# Altium schematic symbol library kmilo17pet-NSC_MiscPower.SchLib: 1552 symbols (part 40 of 43)
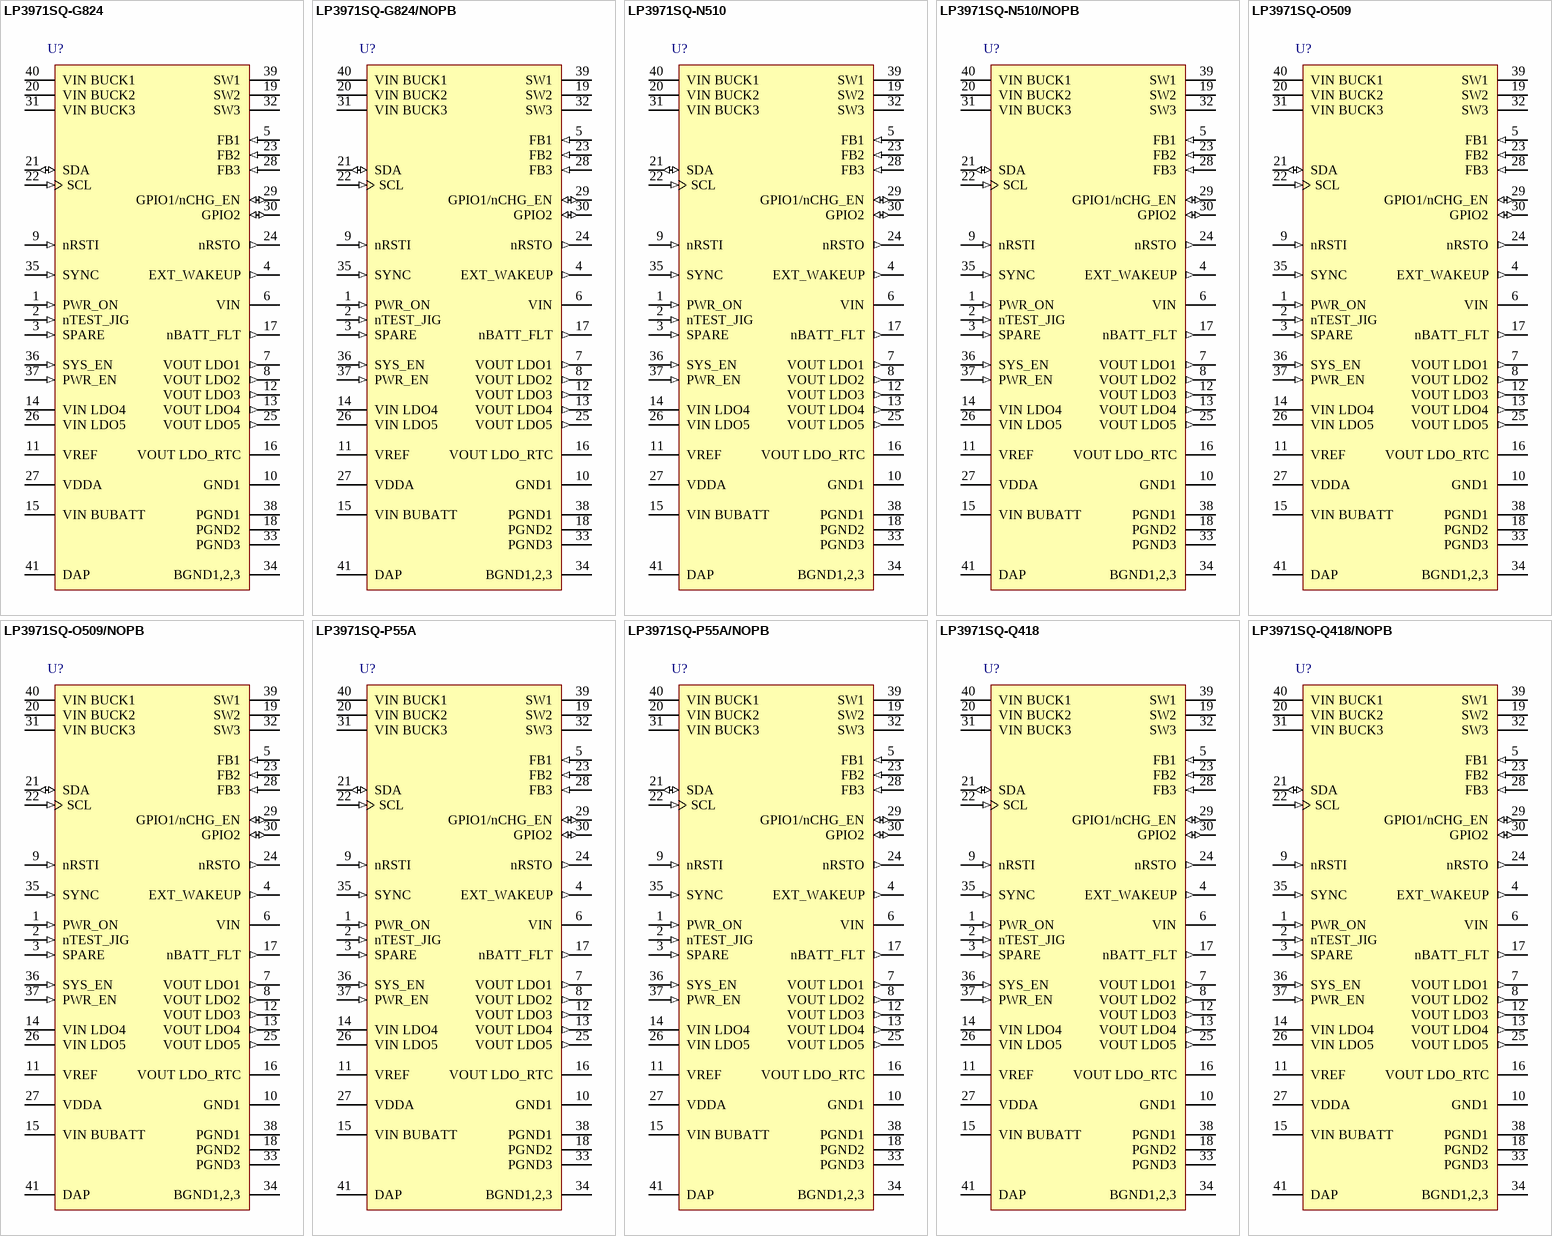
[diagram p96: symbols LP3971SQ-G824 to LP3971SQ-Q418/NOPB]

## LP3971SQ-Q418/NOPB
designator U?
Power Management Unit for Advanced Application Processors, 40-pin LLP, Pb-Free; PartNumber: LP3971SQ-Q418/NOPB; Manufacturer: National Semiconductor; PackageTopMarking: NS*UZXYTT*71-Q418; PowerWise: N; CompType: MiscPower; High-Reliability: Y; DatasheetVersion: Oct-2008; PackageVersion: revB, Jul-2004; PackageReference: SQF40A; PackageDescription: LLP, Quad, 5 x 5 x 0.8mm Body, 40 Lead, 0.4mm Pitch, 3.6 x 3.6mm Exposed Pad; RoHS: Y; PinCount: 40; ComponentLink1Description: Manufacturer URL; ComponentLink1URL: http://www.national.com/; ComponentLink2Description: LP3971 Datasheet; ComponentLink2URL: http://www.national.com/ds/LP/LP3971.pdf; ComponentLink3Description: LP3971 Web Page; ComponentLink3URL: http://www.national.com/pf/LP/LP3971.html; ComponentLink4Description: SQF40A Package Page; ComponentLink4URL: http://www.national.com/packaging/folders/sqf40a.html
footprint SQF40A (QFN, 41-Leads, Body 5x5mm, Pitch 0.4mm, Thermal Pad 3.6x3.6mm, NSC Recommended)
pins: 1 PWR_ON (in), 2 nTEST_JIG (in), 3 SPARE (in), 4 EXT_WAKEUP (out), 5 FB1 (in), 6 VIN (power), 7 VOUT LDO1 (out), 8 VOUT LDO2 (out), 9 nRSTI (in), 10 GND1 (power), 11 VREF, 12 VOUT LDO3 (out), 13 VOUT LDO4 (out), 14 VIN LDO4 (power), 15 VIN BUBATT (power), 16 VOUT LDO_RTC (power), 17 nBATT_FLT (out), 18 PGND2 (power), 19 SW2 (power), 20 VIN BUCK2 (power), 21 SDA (io), 22 SCL (in), 23 FB2 (in), 24 nRSTO (out), 25 VOUT LDO5 (out), 26 VIN LDO5 (power), 27 VDDA (power), 28 FB3 (in), 29 GPIO1/nCHG_EN (io), 30 GPIO2 (io), 31 VIN BUCK3 (power), 32 SW3 (power), 33 PGND3 (power), 34 BGND1,2,3 (power), 35 SYNC (in), 36 SYS_EN (in), 37 PWR_EN (in), 38 PGND1 (power), 39 SW1 (power), 40 VIN BUCK1 (power), 41 DAP (power)

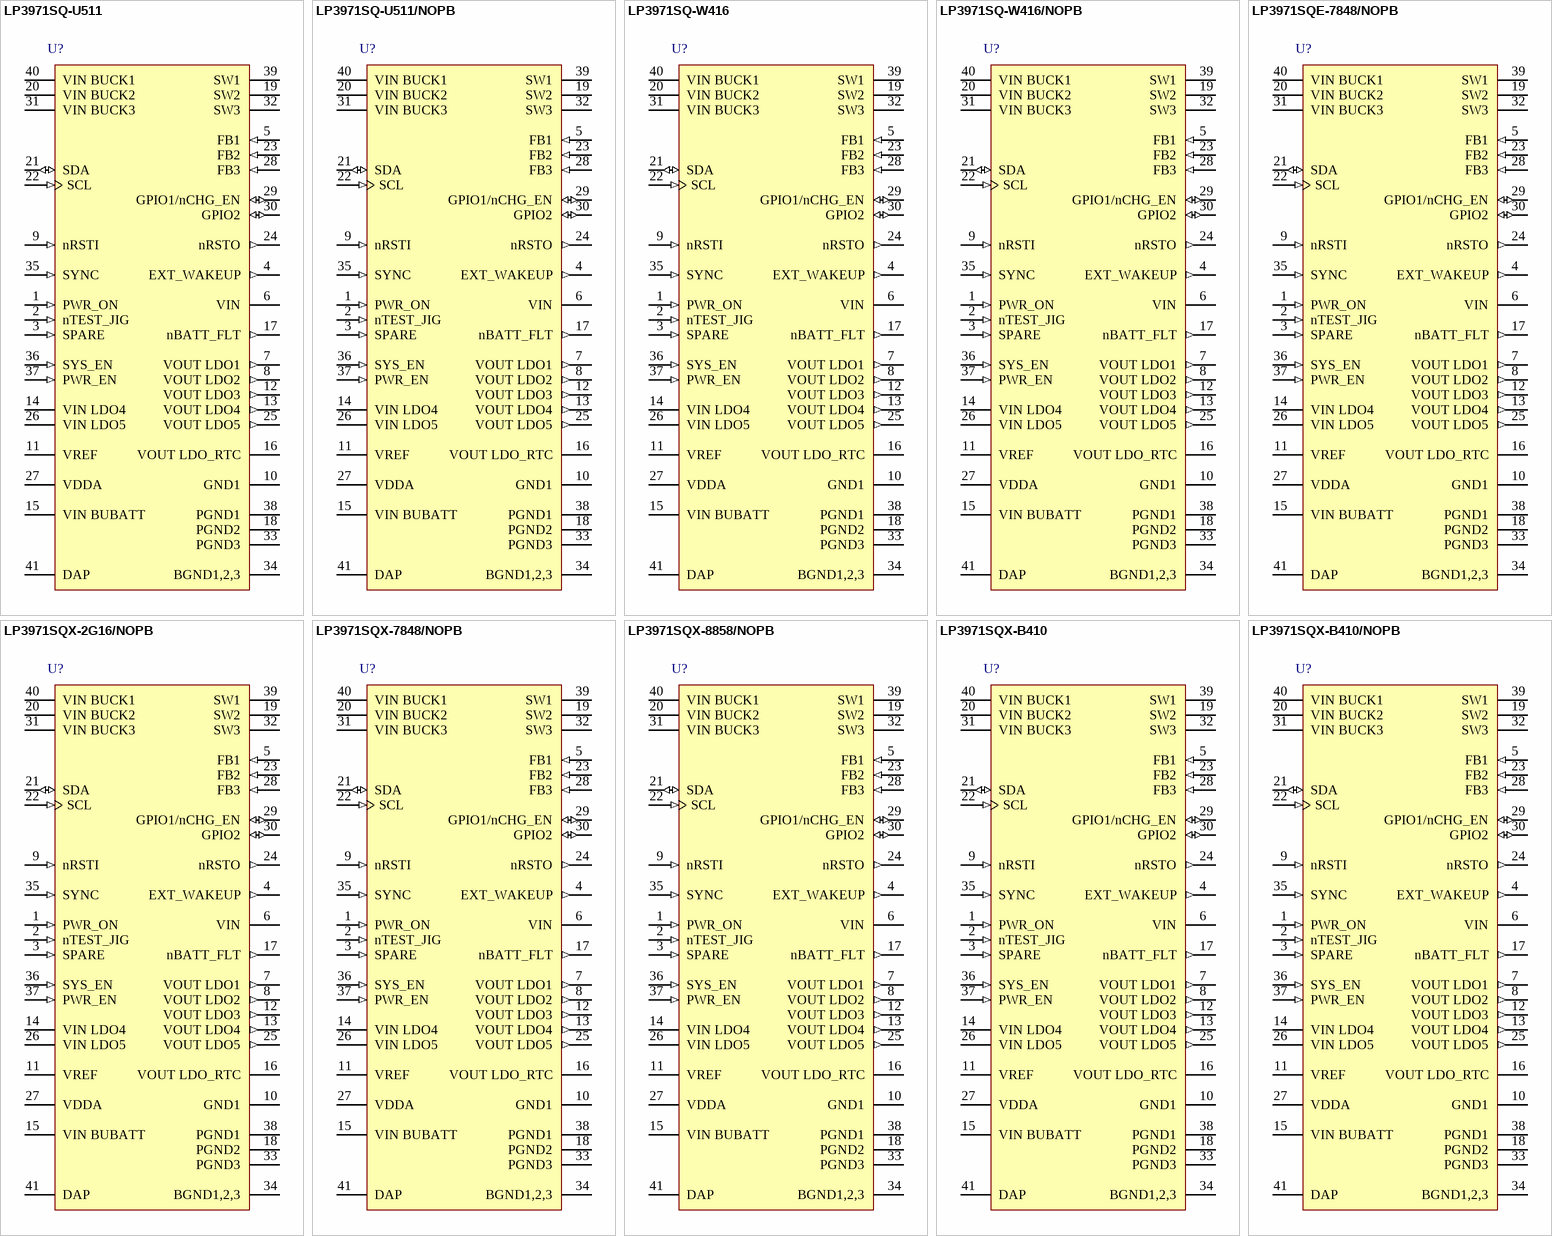
[diagram p50: symbols LP3971SQ-U511 to LP3971SQX-B410/NOPB]

## LP3971SQ-U511
designator U?
Power Management Unit for Advanced Application Processor, 40-pin LLP; PartNumber: LP3971SQ-U511; Manufacturer: National Semiconductor; PackageTopMarking: NS*UZXYTT*71-U511; PowerWise: N; CompType: MiscPower; High-Reliability: Y; DatasheetVersion: Oct-2008; PackageVersion: revB, Jul-2004; PackageReference: SQF40A; PackageDescription: LLP, Quad, 5 x 5 x 0.8mm Body, 40 Lead, 0.4mm Pitch, 3.6 x 3.6mm Exposed Pad; RoHS: Y; PinCount: 40; ComponentLink1Description: Manufacturer URL; ComponentLink1URL: http://www.national.com/; ComponentLink2Description: LP3971 Datasheet; ComponentLink2URL: http://www.national.com/ds/LP/LP3971.pdf; ComponentLink3Description: LP3971 Web Page; ComponentLink3URL: http://www.national.com/pf/LP/LP3971.html; ComponentLink4Description: SQF40A Package Page; ComponentLink4URL: http://www.national.com/packaging/folders/sqf40a.html
footprint SQF40A (QFN, 41-Leads, Body 5x5mm, Pitch 0.4mm, Thermal Pad 3.6x3.6mm, NSC Recommended)
pins: 1 PWR_ON (in), 2 nTEST_JIG (in), 3 SPARE (in), 4 EXT_WAKEUP (out), 5 FB1 (in), 6 VIN (power), 7 VOUT LDO1 (out), 8 VOUT LDO2 (out), 9 nRSTI (in), 10 GND1 (power), 11 VREF, 12 VOUT LDO3 (out), 13 VOUT LDO4 (out), 14 VIN LDO4 (power), 15 VIN BUBATT (power), 16 VOUT LDO_RTC (power), 17 nBATT_FLT (out), 18 PGND2 (power), 19 SW2 (power), 20 VIN BUCK2 (power), 21 SDA (io), 22 SCL (in), 23 FB2 (in), 24 nRSTO (out), 25 VOUT LDO5 (out), 26 VIN LDO5 (power), 27 VDDA (power), 28 FB3 (in), 29 GPIO1/nCHG_EN (io), 30 GPIO2 (io), 31 VIN BUCK3 (power), 32 SW3 (power), 33 PGND3 (power), 34 BGND1,2,3 (power), 35 SYNC (in), 36 SYS_EN (in), 37 PWR_EN (in), 38 PGND1 (power), 39 SW1 (power), 40 VIN BUCK1 (power), 41 DAP (power)

## LP3971SQ-U511/NOPB
designator U?
Power Management Unit for Advanced Application Processors, 40-pin LLP, Pb-Free; PartNumber: LP3971SQ-U511/NOPB; Manufacturer: National Semiconductor; PackageTopMarking: NS*UZXYTT*71-U511; PowerWise: N; CompType: MiscPower; High-Reliability: Y; DatasheetVersion: Oct-2008; PackageVersion: revB, Jul-2004; PackageReference: SQF40A; PackageDescription: LLP, Quad, 5 x 5 x 0.8mm Body, 40 Lead, 0.4mm Pitch, 3.6 x 3.6mm Exposed Pad; RoHS: Y; PinCount: 40; ComponentLink1Description: Manufacturer URL; ComponentLink1URL: http://www.national.com/; ComponentLink2Description: LP3971 Datasheet; ComponentLink2URL: http://www.national.com/ds/LP/LP3971.pdf; ComponentLink3Description: LP3971 Web Page; ComponentLink3URL: http://www.national.com/pf/LP/LP3971.html; ComponentLink4Description: SQF40A Package Page; ComponentLink4URL: http://www.national.com/packaging/folders/sqf40a.html
footprint SQF40A (QFN, 41-Leads, Body 5x5mm, Pitch 0.4mm, Thermal Pad 3.6x3.6mm, NSC Recommended)
pins: 1 PWR_ON (in), 2 nTEST_JIG (in), 3 SPARE (in), 4 EXT_WAKEUP (out), 5 FB1 (in), 6 VIN (power), 7 VOUT LDO1 (out), 8 VOUT LDO2 (out), 9 nRSTI (in), 10 GND1 (power), 11 VREF, 12 VOUT LDO3 (out), 13 VOUT LDO4 (out), 14 VIN LDO4 (power), 15 VIN BUBATT (power), 16 VOUT LDO_RTC (power), 17 nBATT_FLT (out), 18 PGND2 (power), 19 SW2 (power), 20 VIN BUCK2 (power), 21 SDA (io), 22 SCL (in), 23 FB2 (in), 24 nRSTO (out), 25 VOUT LDO5 (out), 26 VIN LDO5 (power), 27 VDDA (power), 28 FB3 (in), 29 GPIO1/nCHG_EN (io), 30 GPIO2 (io), 31 VIN BUCK3 (power), 32 SW3 (power), 33 PGND3 (power), 34 BGND1,2,3 (power), 35 SYNC (in), 36 SYS_EN (in), 37 PWR_EN (in), 38 PGND1 (power), 39 SW1 (power), 40 VIN BUCK1 (power), 41 DAP (power)

## LP3971SQ-W416
designator U?
Power Management Unit for Advanced Application Processor, 40-pin LLP; PartNumber: LP3971SQ-W416; Manufacturer: National Semiconductor; PackageTopMarking: NS*UZXYTT*71W416; PowerWise: N; CompType: MiscPower; High-Reliability: Y; DatasheetVersion: Oct-2008; PackageVersion: revB, Jul-2004; PackageReference: SQF40A; PackageDescription: LLP, Quad, 5 x 5 x 0.8mm Body, 40 Lead, 0.4mm Pitch, 3.6 x 3.6mm Exposed Pad; RoHS: Y; PinCount: 40; ComponentLink1Description: Manufacturer URL; ComponentLink1URL: http://www.national.com/; ComponentLink2Description: LP3971 Datasheet; ComponentLink2URL: http://www.national.com/ds/LP/LP3971.pdf; ComponentLink3Description: LP3971 Web Page; ComponentLink3URL: http://www.national.com/pf/LP/LP3971.html; ComponentLink4Description: SQF40A Package Page; ComponentLink4URL: http://www.national.com/packaging/folders/sqf40a.html
footprint SQF40A (QFN, 41-Leads, Body 5x5mm, Pitch 0.4mm, Thermal Pad 3.6x3.6mm, NSC Recommended)
pins: 1 PWR_ON (in), 2 nTEST_JIG (in), 3 SPARE (in), 4 EXT_WAKEUP (out), 5 FB1 (in), 6 VIN (power), 7 VOUT LDO1 (out), 8 VOUT LDO2 (out), 9 nRSTI (in), 10 GND1 (power), 11 VREF, 12 VOUT LDO3 (out), 13 VOUT LDO4 (out), 14 VIN LDO4 (power), 15 VIN BUBATT (power), 16 VOUT LDO_RTC (power), 17 nBATT_FLT (out), 18 PGND2 (power), 19 SW2 (power), 20 VIN BUCK2 (power), 21 SDA (io), 22 SCL (in), 23 FB2 (in), 24 nRSTO (out), 25 VOUT LDO5 (out), 26 VIN LDO5 (power), 27 VDDA (power), 28 FB3 (in), 29 GPIO1/nCHG_EN (io), 30 GPIO2 (io), 31 VIN BUCK3 (power), 32 SW3 (power), 33 PGND3 (power), 34 BGND1,2,3 (power), 35 SYNC (in), 36 SYS_EN (in), 37 PWR_EN (in), 38 PGND1 (power), 39 SW1 (power), 40 VIN BUCK1 (power), 41 DAP (power)

## LP3971SQ-W416/NOPB
designator U?
Power Management Unit for Advanced Application Processors, 40-pin LLP, Pb-Free; PartNumber: LP3971SQ-W416/NOPB; Manufacturer: National Semiconductor; PackageTopMarking: NS*UZXYTT*71W416; PowerWise: N; CompType: MiscPower; High-Reliability: Y; DatasheetVersion: Oct-2008; PackageVersion: revB, Jul-2004; PackageReference: SQF40A; PackageDescription: LLP, Quad, 5 x 5 x 0.8mm Body, 40 Lead, 0.4mm Pitch, 3.6 x 3.6mm Exposed Pad; RoHS: Y; PinCount: 40; ComponentLink1Description: Manufacturer URL; ComponentLink1URL: http://www.national.com/; ComponentLink2Description: LP3971 Datasheet; ComponentLink2URL: http://www.national.com/ds/LP/LP3971.pdf; ComponentLink3Description: LP3971 Web Page; ComponentLink3URL: http://www.national.com/pf/LP/LP3971.html; ComponentLink4Description: SQF40A Package Page; ComponentLink4URL: http://www.national.com/packaging/folders/sqf40a.html
footprint SQF40A (QFN, 41-Leads, Body 5x5mm, Pitch 0.4mm, Thermal Pad 3.6x3.6mm, NSC Recommended)
pins: 1 PWR_ON (in), 2 nTEST_JIG (in), 3 SPARE (in), 4 EXT_WAKEUP (out), 5 FB1 (in), 6 VIN (power), 7 VOUT LDO1 (out), 8 VOUT LDO2 (out), 9 nRSTI (in), 10 GND1 (power), 11 VREF, 12 VOUT LDO3 (out), 13 VOUT LDO4 (out), 14 VIN LDO4 (power), 15 VIN BUBATT (power), 16 VOUT LDO_RTC (power), 17 nBATT_FLT (out), 18 PGND2 (power), 19 SW2 (power), 20 VIN BUCK2 (power), 21 SDA (io), 22 SCL (in), 23 FB2 (in), 24 nRSTO (out), 25 VOUT LDO5 (out), 26 VIN LDO5 (power), 27 VDDA (power), 28 FB3 (in), 29 GPIO1/nCHG_EN (io), 30 GPIO2 (io), 31 VIN BUCK3 (power), 32 SW3 (power), 33 PGND3 (power), 34 BGND1,2,3 (power), 35 SYNC (in), 36 SYS_EN (in), 37 PWR_EN (in), 38 PGND1 (power), 39 SW1 (power), 40 VIN BUCK1 (power), 41 DAP (power)

## LP3971SQE-7848/NOPB
designator U?
Power Management Unit for Advanced Application Processors, 40-pin LLP, Pb-Free; PartNumber: LP3971SQE-7848/NOPB; Manufacturer: National Semiconductor; PackageTopMarking: NS*UZXYTT*71-7848; PowerWise: N; CompType: MiscPower; High-Reliability: Y; DatasheetVersion: Oct-2008; PackageVersion: revB, Jul-2004; PackageReference: SQF40A; PackageDescription: LLP, Quad, 5 x 5 x 0.8mm Body, 40 Lead, 0.4mm Pitch, 3.6 x 3.6mm Exposed Pad; RoHS: Y; PinCount: 40; ComponentLink1Description: Manufacturer URL; ComponentLink1URL: http://www.national.com/; ComponentLink2Description: LP3971 Datasheet; ComponentLink2URL: http://www.national.com/ds/LP/LP3971.pdf; ComponentLink3Description: LP3971 Web Page; ComponentLink3URL: http://www.national.com/pf/LP/LP3971.html; ComponentLink4Description: SQF40A Package Page; ComponentLink4URL: http://www.national.com/packaging/folders/sqf40a.html
footprint SQF40A (QFN, 41-Leads, Body 5x5mm, Pitch 0.4mm, Thermal Pad 3.6x3.6mm, NSC Recommended)
pins: 1 PWR_ON (in), 2 nTEST_JIG (in), 3 SPARE (in), 4 EXT_WAKEUP (out), 5 FB1 (in), 6 VIN (power), 7 VOUT LDO1 (out), 8 VOUT LDO2 (out), 9 nRSTI (in), 10 GND1 (power), 11 VREF, 12 VOUT LDO3 (out), 13 VOUT LDO4 (out), 14 VIN LDO4 (power), 15 VIN BUBATT (power), 16 VOUT LDO_RTC (power), 17 nBATT_FLT (out), 18 PGND2 (power), 19 SW2 (power), 20 VIN BUCK2 (power), 21 SDA (io), 22 SCL (in), 23 FB2 (in), 24 nRSTO (out), 25 VOUT LDO5 (out), 26 VIN LDO5 (power), 27 VDDA (power), 28 FB3 (in), 29 GPIO1/nCHG_EN (io), 30 GPIO2 (io), 31 VIN BUCK3 (power), 32 SW3 (power), 33 PGND3 (power), 34 BGND1,2,3 (power), 35 SYNC (in), 36 SYS_EN (in), 37 PWR_EN (in), 38 PGND1 (power), 39 SW1 (power), 40 VIN BUCK1 (power), 41 DAP (power)

## LP3971SQX-2G16/NOPB
designator U?
Power Management Unit for Advanced Application Processors, 40-pin LLP, Pb-Free; PartNumber: LP3971SQX-2G16/NOPB; Manufacturer: National Semiconductor; PackageTopMarking: NS*UZXYTT*71-2G16; PowerWise: N; CompType: MiscPower; High-Reliability: Y; DatasheetVersion: Oct-2008; PackageVersion: revB, Jul-2004; PackageReference: SQF40A; PackageDescription: LLP, Quad, 5 x 5 x 0.8mm Body, 40 Lead, 0.4mm Pitch, 3.6 x 3.6mm Exposed Pad; RoHS: Y; PinCount: 40; ComponentLink1Description: Manufacturer URL; ComponentLink1URL: http://www.national.com/; ComponentLink2Description: LP3971 Datasheet; ComponentLink2URL: http://www.national.com/ds/LP/LP3971.pdf; ComponentLink3Description: LP3971 Web Page; ComponentLink3URL: http://www.national.com/pf/LP/LP3971.html; ComponentLink4Description: SQF40A Package Page; ComponentLink4URL: http://www.national.com/packaging/folders/sqf40a.html
footprint SQF40A (QFN, 41-Leads, Body 5x5mm, Pitch 0.4mm, Thermal Pad 3.6x3.6mm, NSC Recommended)
pins: 1 PWR_ON (in), 2 nTEST_JIG (in), 3 SPARE (in), 4 EXT_WAKEUP (out), 5 FB1 (in), 6 VIN (power), 7 VOUT LDO1 (out), 8 VOUT LDO2 (out), 9 nRSTI (in), 10 GND1 (power), 11 VREF, 12 VOUT LDO3 (out), 13 VOUT LDO4 (out), 14 VIN LDO4 (power), 15 VIN BUBATT (power), 16 VOUT LDO_RTC (power), 17 nBATT_FLT (out), 18 PGND2 (power), 19 SW2 (power), 20 VIN BUCK2 (power), 21 SDA (io), 22 SCL (in), 23 FB2 (in), 24 nRSTO (out), 25 VOUT LDO5 (out), 26 VIN LDO5 (power), 27 VDDA (power), 28 FB3 (in), 29 GPIO1/nCHG_EN (io), 30 GPIO2 (io), 31 VIN BUCK3 (power), 32 SW3 (power), 33 PGND3 (power), 34 BGND1,2,3 (power), 35 SYNC (in), 36 SYS_EN (in), 37 PWR_EN (in), 38 PGND1 (power), 39 SW1 (power), 40 VIN BUCK1 (power), 41 DAP (power)

## LP3971SQX-7848/NOPB
designator U?
Power Management Unit for Advanced Application Processors, 40-pin LLP, Pb-Free; PartNumber: LP3971SQX-7848/NOPB; Manufacturer: National Semiconductor; PackageTopMarking: NS*UZXYTT*71-7848; PowerWise: N; CompType: MiscPower; High-Reliability: Y; DatasheetVersion: Oct-2008; PackageVersion: revB, Jul-2004; PackageReference: SQF40A; PackageDescription: LLP, Quad, 5 x 5 x 0.8mm Body, 40 Lead, 0.4mm Pitch, 3.6 x 3.6mm Exposed Pad; RoHS: Y; PinCount: 40; ComponentLink1Description: Manufacturer URL; ComponentLink1URL: http://www.national.com/; ComponentLink2Description: LP3971 Datasheet; ComponentLink2URL: http://www.national.com/ds/LP/LP3971.pdf; ComponentLink3Description: LP3971 Web Page; ComponentLink3URL: http://www.national.com/pf/LP/LP3971.html; ComponentLink4Description: SQF40A Package Page; ComponentLink4URL: http://www.national.com/packaging/folders/sqf40a.html
footprint SQF40A (QFN, 41-Leads, Body 5x5mm, Pitch 0.4mm, Thermal Pad 3.6x3.6mm, NSC Recommended)
pins: 1 PWR_ON (in), 2 nTEST_JIG (in), 3 SPARE (in), 4 EXT_WAKEUP (out), 5 FB1 (in), 6 VIN (power), 7 VOUT LDO1 (out), 8 VOUT LDO2 (out), 9 nRSTI (in), 10 GND1 (power), 11 VREF, 12 VOUT LDO3 (out), 13 VOUT LDO4 (out), 14 VIN LDO4 (power), 15 VIN BUBATT (power), 16 VOUT LDO_RTC (power), 17 nBATT_FLT (out), 18 PGND2 (power), 19 SW2 (power), 20 VIN BUCK2 (power), 21 SDA (io), 22 SCL (in), 23 FB2 (in), 24 nRSTO (out), 25 VOUT LDO5 (out), 26 VIN LDO5 (power), 27 VDDA (power), 28 FB3 (in), 29 GPIO1/nCHG_EN (io), 30 GPIO2 (io), 31 VIN BUCK3 (power), 32 SW3 (power), 33 PGND3 (power), 34 BGND1,2,3 (power), 35 SYNC (in), 36 SYS_EN (in), 37 PWR_EN (in), 38 PGND1 (power), 39 SW1 (power), 40 VIN BUCK1 (power), 41 DAP (power)

## LP3971SQX-8858/NOPB
designator U?
Power Management Unit for Advanced Application Processors, 40-pin LLP, Pb-Free; PartNumber: LP3971SQX-8858/NOPB; Manufacturer: National Semiconductor; PackageTopMarking: NS*UZXYTT*71-8858; PowerWise: N; CompType: MiscPower; High-Reliability: Y; DatasheetVersion: Oct-2008; PackageVersion: revB, Jul-2004; PackageReference: SQF40A; PackageDescription: LLP, Quad, 5 x 5 x 0.8mm Body, 40 Lead, 0.4mm Pitch, 3.6 x 3.6mm Exposed Pad; RoHS: Y; PinCount: 40; ComponentLink1Description: Manufacturer URL; ComponentLink1URL: http://www.national.com/; ComponentLink2Description: LP3971 Datasheet; ComponentLink2URL: http://www.national.com/ds/LP/LP3971.pdf; ComponentLink3Description: LP3971 Web Page; ComponentLink3URL: http://www.national.com/pf/LP/LP3971.html; ComponentLink4Description: SQF40A Package Page; ComponentLink4URL: http://www.national.com/packaging/folders/sqf40a.html
footprint SQF40A (QFN, 41-Leads, Body 5x5mm, Pitch 0.4mm, Thermal Pad 3.6x3.6mm, NSC Recommended)
pins: 1 PWR_ON (in), 2 nTEST_JIG (in), 3 SPARE (in), 4 EXT_WAKEUP (out), 5 FB1 (in), 6 VIN (power), 7 VOUT LDO1 (out), 8 VOUT LDO2 (out), 9 nRSTI (in), 10 GND1 (power), 11 VREF, 12 VOUT LDO3 (out), 13 VOUT LDO4 (out), 14 VIN LDO4 (power), 15 VIN BUBATT (power), 16 VOUT LDO_RTC (power), 17 nBATT_FLT (out), 18 PGND2 (power), 19 SW2 (power), 20 VIN BUCK2 (power), 21 SDA (io), 22 SCL (in), 23 FB2 (in), 24 nRSTO (out), 25 VOUT LDO5 (out), 26 VIN LDO5 (power), 27 VDDA (power), 28 FB3 (in), 29 GPIO1/nCHG_EN (io), 30 GPIO2 (io), 31 VIN BUCK3 (power), 32 SW3 (power), 33 PGND3 (power), 34 BGND1,2,3 (power), 35 SYNC (in), 36 SYS_EN (in), 37 PWR_EN (in), 38 PGND1 (power), 39 SW1 (power), 40 VIN BUCK1 (power), 41 DAP (power)

## LP3971SQX-B410
designator U?
Power Management Unit for Advanced Application Processors, 40-pin LLP; PartNumber: LP3971SQX-B410; Manufacturer: National Semiconductor; PackageTopMarking: NS*UZXYTT*71-B410; PowerWise: Y; CompType: MiscPower; DatasheetVersion: Oct-2008; PackageVersion: revB, Jul-2004; PackageReference: SQF40A; PackageDescription: LLP, Quad, 5 x 5 x 0.8mm Body, 40 Lead, 0.4mm Pitch, 3.6 x 3.6mm Exposed Pad; RoHS: N; PinCount: 40; High-Reliability: Y; ComponentLink1Description: Manufacturer URL; ComponentLink1URL: http://www.national.com/; ComponentLink2Description: LP3971 Datasheet; ComponentLink2URL: http://www.national.com/ds/LP/LP3971.pdf; ComponentLink3Description: LP3971 Web Page; ComponentLink3URL: http://www.national.com/pf/LP/LP3971.html; ComponentLink4Description: SQF40A Package Page; ComponentLink4URL: http://www.national.com/packaging/folders/sqf40a.html
footprint SQF40A (QFN, 41-Leads, Body 5x5mm, Pitch 0.4mm, Thermal Pad 3.6x3.6mm, NSC Recommended)
pins: 1 PWR_ON (in), 2 nTEST_JIG (in), 3 SPARE (in), 4 EXT_WAKEUP (out), 5 FB1 (in), 6 VIN (power), 7 VOUT LDO1 (out), 8 VOUT LDO2 (out), 9 nRSTI (in), 10 GND1 (power), 11 VREF, 12 VOUT LDO3 (out), 13 VOUT LDO4 (out), 14 VIN LDO4 (power), 15 VIN BUBATT (power), 16 VOUT LDO_RTC (power), 17 nBATT_FLT (out), 18 PGND2 (power), 19 SW2 (power), 20 VIN BUCK2 (power), 21 SDA (io), 22 SCL (in), 23 FB2 (in), 24 nRSTO (out), 25 VOUT LDO5 (out), 26 VIN LDO5 (power), 27 VDDA (power), 28 FB3 (in), 29 GPIO1/nCHG_EN (io), 30 GPIO2 (io), 31 VIN BUCK3 (power), 32 SW3 (power), 33 PGND3 (power), 34 BGND1,2,3 (power), 35 SYNC (in), 36 SYS_EN (in), 37 PWR_EN (in), 38 PGND1 (power), 39 SW1 (power), 40 VIN BUCK1 (power), 41 DAP (power)

## LP3971SQX-B410/NOPB
designator U?
Power Management Unit for Advanced Application Processors, 40-pin LLP, Pb-Free; PartNumber: LP3971SQX-B410/NOPB; Manufacturer: National Semiconductor; PackageTopMarking: NS*UZXYTT*71-B410; PowerWise: Y; CompType: MiscPower; DatasheetVersion: Oct-2008; PackageVersion: revB, Jul-2004; PackageReference: SQF40A; PackageDescription: LLP, Quad, 5 x 5 x 0.8mm Body, 40 Lead, 0.4mm Pitch, 3.6 x 3.6mm Exposed Pad; RoHS: Y; PinCount: 40; High-Reliability: Y; ComponentLink1Description: Manufacturer URL; ComponentLink1URL: http://www.national.com/; ComponentLink2Description: LP3971 Datasheet; ComponentLink2URL: http://www.national.com/ds/LP/LP3971.pdf; ComponentLink3Description: LP3971 Web Page; ComponentLink3URL: http://www.national.com/pf/LP/LP3971.html; ComponentLink4Description: SQF40A Package Page; ComponentLink4URL: http://www.national.com/packaging/folders/sqf40a.html
footprint SQF40A (QFN, 41-Leads, Body 5x5mm, Pitch 0.4mm, Thermal Pad 3.6x3.6mm, NSC Recommended)
pins: 1 PWR_ON (in), 2 nTEST_JIG (in), 3 SPARE (in), 4 EXT_WAKEUP (out), 5 FB1 (in), 6 VIN (power), 7 VOUT LDO1 (out), 8 VOUT LDO2 (out), 9 nRSTI (in), 10 GND1 (power), 11 VREF, 12 VOUT LDO3 (out), 13 VOUT LDO4 (out), 14 VIN LDO4 (power), 15 VIN BUBATT (power), 16 VOUT LDO_RTC (power), 17 nBATT_FLT (out), 18 PGND2 (power), 19 SW2 (power), 20 VIN BUCK2 (power), 21 SDA (io), 22 SCL (in), 23 FB2 (in), 24 nRSTO (out), 25 VOUT LDO5 (out), 26 VIN LDO5 (power), 27 VDDA (power), 28 FB3 (in), 29 GPIO1/nCHG_EN (io), 30 GPIO2 (io), 31 VIN BUCK3 (power), 32 SW3 (power), 33 PGND3 (power), 34 BGND1,2,3 (power), 35 SYNC (in), 36 SYS_EN (in), 37 PWR_EN (in), 38 PGND1 (power), 39 SW1 (power), 40 VIN BUCK1 (power), 41 DAP (power)

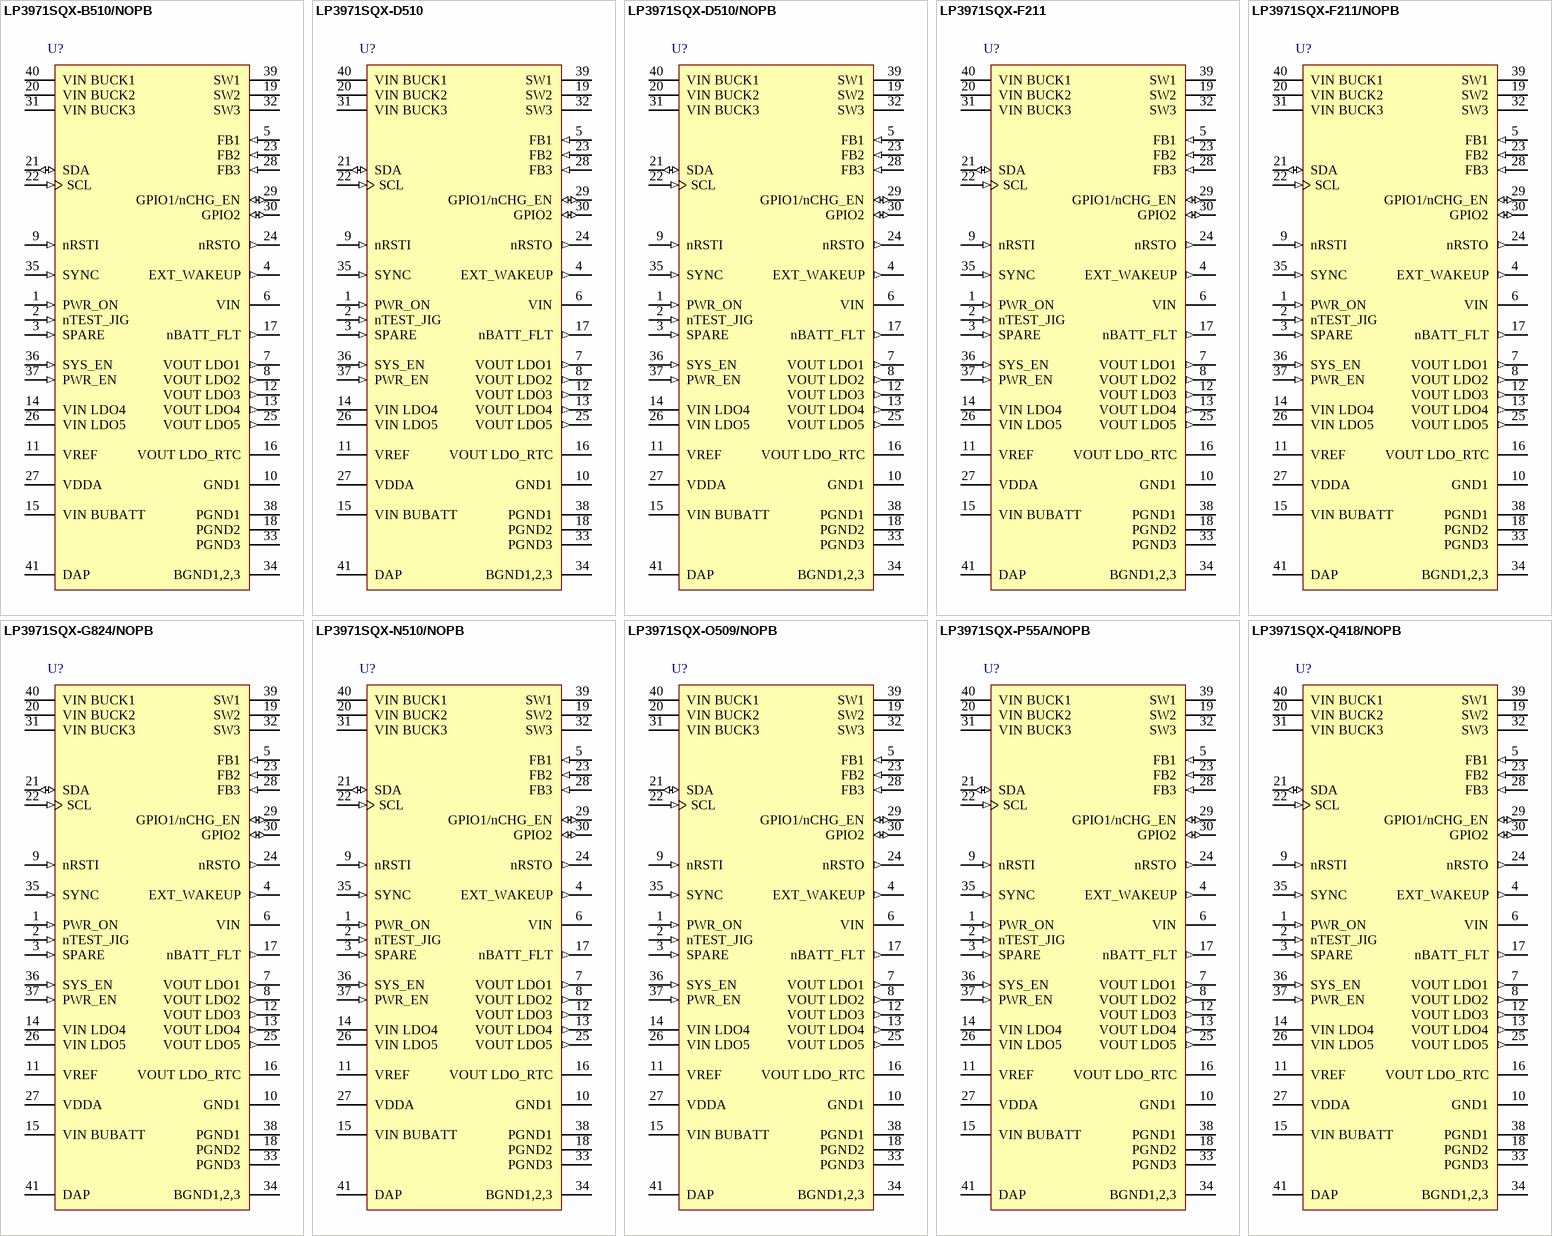
[diagram p51: symbols LP3971SQX-B510/NOPB to LP3971SQX-Q418/NOPB]

## LP3971SQX-B510/NOPB
designator U?
Power Management Unit for Advanced Application Processors, 40-pin LLP, Pb-Free; PartNumber: LP3971SQX-B510/NOPB; Manufacturer: National Semiconductor; PackageTopMarking: NS*UZXYTT*71-B510; PowerWise: N; CompType: MiscPower; High-Reliability: Y; DatasheetVersion: Oct-2008; PackageVersion: revB, Jul-2004; PackageReference: SQF40A; PackageDescription: LLP, Quad, 5 x 5 x 0.8mm Body, 40 Lead, 0.4mm Pitch, 3.6 x 3.6mm Exposed Pad; RoHS: Y; PinCount: 40; ComponentLink1Description: Manufacturer URL; ComponentLink1URL: http://www.national.com/; ComponentLink2Description: LP3971 Datasheet; ComponentLink2URL: http://www.national.com/ds/LP/LP3971.pdf; ComponentLink3Description: LP3971 Web Page; ComponentLink3URL: http://www.national.com/pf/LP/LP3971.html; ComponentLink4Description: SQF40A Package Page; ComponentLink4URL: http://www.national.com/packaging/folders/sqf40a.html
footprint SQF40A (QFN, 41-Leads, Body 5x5mm, Pitch 0.4mm, Thermal Pad 3.6x3.6mm, NSC Recommended)
pins: 1 PWR_ON (in), 2 nTEST_JIG (in), 3 SPARE (in), 4 EXT_WAKEUP (out), 5 FB1 (in), 6 VIN (power), 7 VOUT LDO1 (out), 8 VOUT LDO2 (out), 9 nRSTI (in), 10 GND1 (power), 11 VREF, 12 VOUT LDO3 (out), 13 VOUT LDO4 (out), 14 VIN LDO4 (power), 15 VIN BUBATT (power), 16 VOUT LDO_RTC (power), 17 nBATT_FLT (out), 18 PGND2 (power), 19 SW2 (power), 20 VIN BUCK2 (power), 21 SDA (io), 22 SCL (in), 23 FB2 (in), 24 nRSTO (out), 25 VOUT LDO5 (out), 26 VIN LDO5 (power), 27 VDDA (power), 28 FB3 (in), 29 GPIO1/nCHG_EN (io), 30 GPIO2 (io), 31 VIN BUCK3 (power), 32 SW3 (power), 33 PGND3 (power), 34 BGND1,2,3 (power), 35 SYNC (in), 36 SYS_EN (in), 37 PWR_EN (in), 38 PGND1 (power), 39 SW1 (power), 40 VIN BUCK1 (power), 41 DAP (power)

## LP3971SQX-D510
designator U?
Power Management Unit for Advanced Application Processors, 40-pin LLP; PartNumber: LP3971SQX-D510; Manufacturer: National Semiconductor; PackageTopMarking: NS*UZXYTT*71-D510; PowerWise: N; CompType: MiscPower; High-Reliability: Y; DatasheetVersion: Oct-2008; PackageVersion: revB, Jul-2004; PackageReference: SQF40A; PackageDescription: LLP, Quad, 5 x 5 x 0.8mm Body, 40 Lead, 0.4mm Pitch, 3.6 x 3.6mm Exposed Pad; RoHS: N; PinCount: 40; ComponentLink1Description: Manufacturer URL; ComponentLink1URL: http://www.national.com/; ComponentLink2Description: LP3971 Datasheet; ComponentLink2URL: http://www.national.com/ds/LP/LP3971.pdf; ComponentLink3Description: LP3971 Web Page; ComponentLink3URL: http://www.national.com/pf/LP/LP3971.html; ComponentLink4Description: SQF40A Package Page; ComponentLink4URL: http://www.national.com/packaging/folders/sqf40a.html
footprint SQF40A (QFN, 41-Leads, Body 5x5mm, Pitch 0.4mm, Thermal Pad 3.6x3.6mm, NSC Recommended)
pins: 1 PWR_ON (in), 2 nTEST_JIG (in), 3 SPARE (in), 4 EXT_WAKEUP (out), 5 FB1 (in), 6 VIN (power), 7 VOUT LDO1 (out), 8 VOUT LDO2 (out), 9 nRSTI (in), 10 GND1 (power), 11 VREF, 12 VOUT LDO3 (out), 13 VOUT LDO4 (out), 14 VIN LDO4 (power), 15 VIN BUBATT (power), 16 VOUT LDO_RTC (power), 17 nBATT_FLT (out), 18 PGND2 (power), 19 SW2 (power), 20 VIN BUCK2 (power), 21 SDA (io), 22 SCL (in), 23 FB2 (in), 24 nRSTO (out), 25 VOUT LDO5 (out), 26 VIN LDO5 (power), 27 VDDA (power), 28 FB3 (in), 29 GPIO1/nCHG_EN (io), 30 GPIO2 (io), 31 VIN BUCK3 (power), 32 SW3 (power), 33 PGND3 (power), 34 BGND1,2,3 (power), 35 SYNC (in), 36 SYS_EN (in), 37 PWR_EN (in), 38 PGND1 (power), 39 SW1 (power), 40 VIN BUCK1 (power), 41 DAP (power)

## LP3971SQX-D510/NOPB
designator U?
Power Management Unit for Advanced Application Processors, 40-pin LLP, Pb-Free; PartNumber: LP3971SQX-D510/NOPB; Manufacturer: National Semiconductor; PackageTopMarking: NS*UZXYTT*71-D510; PowerWise: N; CompType: MiscPower; High-Reliability: Y; DatasheetVersion: Oct-2008; PackageVersion: revB, Jul-2004; PackageReference: SQF40A; PackageDescription: LLP, Quad, 5 x 5 x 0.8mm Body, 40 Lead, 0.4mm Pitch, 3.6 x 3.6mm Exposed Pad; RoHS: Y; PinCount: 40; ComponentLink1Description: Manufacturer URL; ComponentLink1URL: http://www.national.com/; ComponentLink2Description: LP3971 Datasheet; ComponentLink2URL: http://www.national.com/ds/LP/LP3971.pdf; ComponentLink3Description: LP3971 Web Page; ComponentLink3URL: http://www.national.com/pf/LP/LP3971.html; ComponentLink4Description: SQF40A Package Page; ComponentLink4URL: http://www.national.com/packaging/folders/sqf40a.html
footprint SQF40A (QFN, 41-Leads, Body 5x5mm, Pitch 0.4mm, Thermal Pad 3.6x3.6mm, NSC Recommended)
pins: 1 PWR_ON (in), 2 nTEST_JIG (in), 3 SPARE (in), 4 EXT_WAKEUP (out), 5 FB1 (in), 6 VIN (power), 7 VOUT LDO1 (out), 8 VOUT LDO2 (out), 9 nRSTI (in), 10 GND1 (power), 11 VREF, 12 VOUT LDO3 (out), 13 VOUT LDO4 (out), 14 VIN LDO4 (power), 15 VIN BUBATT (power), 16 VOUT LDO_RTC (power), 17 nBATT_FLT (out), 18 PGND2 (power), 19 SW2 (power), 20 VIN BUCK2 (power), 21 SDA (io), 22 SCL (in), 23 FB2 (in), 24 nRSTO (out), 25 VOUT LDO5 (out), 26 VIN LDO5 (power), 27 VDDA (power), 28 FB3 (in), 29 GPIO1/nCHG_EN (io), 30 GPIO2 (io), 31 VIN BUCK3 (power), 32 SW3 (power), 33 PGND3 (power), 34 BGND1,2,3 (power), 35 SYNC (in), 36 SYS_EN (in), 37 PWR_EN (in), 38 PGND1 (power), 39 SW1 (power), 40 VIN BUCK1 (power), 41 DAP (power)

## LP3971SQX-F211
designator U?
Power Management Unit for Advanced Application Processors, 40-pin LLP; PartNumber: LP3971SQX-F211; Manufacturer: National Semiconductor; PackageTopMarking: NS*UZXYTT*71-F211; PowerWise: N; CompType: MiscPower; High-Reliability: Y; DatasheetVersion: Oct-2008; PackageVersion: revB, Jul-2004; PackageReference: SQF40A; PackageDescription: LLP, Quad, 5 x 5 x 0.8mm Body, 40 Lead, 0.4mm Pitch, 3.6 x 3.6mm Exposed Pad; RoHS: N; PinCount: 40; ComponentLink1Description: Manufacturer URL; ComponentLink1URL: http://www.national.com/; ComponentLink2Description: LP3971 Datasheet; ComponentLink2URL: http://www.national.com/ds/LP/LP3971.pdf; ComponentLink3Description: LP3971 Web Page; ComponentLink3URL: http://www.national.com/pf/LP/LP3971.html; ComponentLink4Description: SQF40A Package Page; ComponentLink4URL: http://www.national.com/packaging/folders/sqf40a.html
footprint SQF40A (QFN, 41-Leads, Body 5x5mm, Pitch 0.4mm, Thermal Pad 3.6x3.6mm, NSC Recommended)
pins: 1 PWR_ON (in), 2 nTEST_JIG (in), 3 SPARE (in), 4 EXT_WAKEUP (out), 5 FB1 (in), 6 VIN (power), 7 VOUT LDO1 (out), 8 VOUT LDO2 (out), 9 nRSTI (in), 10 GND1 (power), 11 VREF, 12 VOUT LDO3 (out), 13 VOUT LDO4 (out), 14 VIN LDO4 (power), 15 VIN BUBATT (power), 16 VOUT LDO_RTC (power), 17 nBATT_FLT (out), 18 PGND2 (power), 19 SW2 (power), 20 VIN BUCK2 (power), 21 SDA (io), 22 SCL (in), 23 FB2 (in), 24 nRSTO (out), 25 VOUT LDO5 (out), 26 VIN LDO5 (power), 27 VDDA (power), 28 FB3 (in), 29 GPIO1/nCHG_EN (io), 30 GPIO2 (io), 31 VIN BUCK3 (power), 32 SW3 (power), 33 PGND3 (power), 34 BGND1,2,3 (power), 35 SYNC (in), 36 SYS_EN (in), 37 PWR_EN (in), 38 PGND1 (power), 39 SW1 (power), 40 VIN BUCK1 (power), 41 DAP (power)

## LP3971SQX-F211/NOPB
designator U?
Power Management Unit for Advanced Application Processors, 40-pin LLP, Pb-Free; PartNumber: LP3971SQX-F211/NOPB; Manufacturer: National Semiconductor; PackageTopMarking: NS*UZXYTT*71-F211; PowerWise: N; CompType: MiscPower; High-Reliability: Y; DatasheetVersion: Oct-2008; PackageVersion: revB, Jul-2004; PackageReference: SQF40A; PackageDescription: LLP, Quad, 5 x 5 x 0.8mm Body, 40 Lead, 0.4mm Pitch, 3.6 x 3.6mm Exposed Pad; RoHS: Y; PinCount: 40; ComponentLink1Description: Manufacturer URL; ComponentLink1URL: http://www.national.com/; ComponentLink2Description: LP3971 Datasheet; ComponentLink2URL: http://www.national.com/ds/LP/LP3971.pdf; ComponentLink3Description: LP3971 Web Page; ComponentLink3URL: http://www.national.com/pf/LP/LP3971.html; ComponentLink4Description: SQF40A Package Page; ComponentLink4URL: http://www.national.com/packaging/folders/sqf40a.html
footprint SQF40A (QFN, 41-Leads, Body 5x5mm, Pitch 0.4mm, Thermal Pad 3.6x3.6mm, NSC Recommended)
pins: 1 PWR_ON (in), 2 nTEST_JIG (in), 3 SPARE (in), 4 EXT_WAKEUP (out), 5 FB1 (in), 6 VIN (power), 7 VOUT LDO1 (out), 8 VOUT LDO2 (out), 9 nRSTI (in), 10 GND1 (power), 11 VREF, 12 VOUT LDO3 (out), 13 VOUT LDO4 (out), 14 VIN LDO4 (power), 15 VIN BUBATT (power), 16 VOUT LDO_RTC (power), 17 nBATT_FLT (out), 18 PGND2 (power), 19 SW2 (power), 20 VIN BUCK2 (power), 21 SDA (io), 22 SCL (in), 23 FB2 (in), 24 nRSTO (out), 25 VOUT LDO5 (out), 26 VIN LDO5 (power), 27 VDDA (power), 28 FB3 (in), 29 GPIO1/nCHG_EN (io), 30 GPIO2 (io), 31 VIN BUCK3 (power), 32 SW3 (power), 33 PGND3 (power), 34 BGND1,2,3 (power), 35 SYNC (in), 36 SYS_EN (in), 37 PWR_EN (in), 38 PGND1 (power), 39 SW1 (power), 40 VIN BUCK1 (power), 41 DAP (power)

## LP3971SQX-G824/NOPB
designator U?
Power Management Unit for Advanced Application Processors, 40-pin LLP, Pb-Free; PartNumber: LP3971SQX-G824/NOPB; Manufacturer: National Semiconductor; PackageTopMarking: NS*UZXYTT*71-G824; PowerWise: N; CompType: MiscPower; High-Reliability: Y; DatasheetVersion: Oct-2008; PackageVersion: revB, Jul-2004; PackageReference: SQF40A; PackageDescription: LLP, Quad, 5 x 5 x 0.8mm Body, 40 Lead, 0.4mm Pitch, 3.6 x 3.6mm Exposed Pad; RoHS: Y; PinCount: 40; ComponentLink1Description: Manufacturer URL; ComponentLink1URL: http://www.national.com/; ComponentLink2Description: LP3971 Datasheet; ComponentLink2URL: http://www.national.com/ds/LP/LP3971.pdf; ComponentLink3Description: LP3971 Web Page; ComponentLink3URL: http://www.national.com/pf/LP/LP3971.html; ComponentLink4Description: SQF40A Package Page; ComponentLink4URL: http://www.national.com/packaging/folders/sqf40a.html
footprint SQF40A (QFN, 41-Leads, Body 5x5mm, Pitch 0.4mm, Thermal Pad 3.6x3.6mm, NSC Recommended)
pins: 1 PWR_ON (in), 2 nTEST_JIG (in), 3 SPARE (in), 4 EXT_WAKEUP (out), 5 FB1 (in), 6 VIN (power), 7 VOUT LDO1 (out), 8 VOUT LDO2 (out), 9 nRSTI (in), 10 GND1 (power), 11 VREF, 12 VOUT LDO3 (out), 13 VOUT LDO4 (out), 14 VIN LDO4 (power), 15 VIN BUBATT (power), 16 VOUT LDO_RTC (power), 17 nBATT_FLT (out), 18 PGND2 (power), 19 SW2 (power), 20 VIN BUCK2 (power), 21 SDA (io), 22 SCL (in), 23 FB2 (in), 24 nRSTO (out), 25 VOUT LDO5 (out), 26 VIN LDO5 (power), 27 VDDA (power), 28 FB3 (in), 29 GPIO1/nCHG_EN (io), 30 GPIO2 (io), 31 VIN BUCK3 (power), 32 SW3 (power), 33 PGND3 (power), 34 BGND1,2,3 (power), 35 SYNC (in), 36 SYS_EN (in), 37 PWR_EN (in), 38 PGND1 (power), 39 SW1 (power), 40 VIN BUCK1 (power), 41 DAP (power)

## LP3971SQX-N510/NOPB
designator U?
Power Management Unit for Advanced Application Processors, 40-pin LLP, Pb-Free; PartNumber: LP3971SQX-N510/NOPB; Manufacturer: National Semiconductor; PackageTopMarking: NS*UZXYTT*71-N510; PowerWise: N; CompType: MiscPower; High-Reliability: Y; DatasheetVersion: Oct-2008; PackageVersion: revB, Jul-2004; PackageReference: SQF40A; PackageDescription: LLP, Quad, 5 x 5 x 0.8mm Body, 40 Lead, 0.4mm Pitch, 3.6 x 3.6mm Exposed Pad; RoHS: Y; PinCount: 40; ComponentLink1Description: Manufacturer URL; ComponentLink1URL: http://www.national.com/; ComponentLink2Description: LP3971 Datasheet; ComponentLink2URL: http://www.national.com/ds/LP/LP3971.pdf; ComponentLink3Description: LP3971 Web Page; ComponentLink3URL: http://www.national.com/pf/LP/LP3971.html; ComponentLink4Description: SQF40A Package Page; ComponentLink4URL: http://www.national.com/packaging/folders/sqf40a.html
footprint SQF40A (QFN, 41-Leads, Body 5x5mm, Pitch 0.4mm, Thermal Pad 3.6x3.6mm, NSC Recommended)
pins: 1 PWR_ON (in), 2 nTEST_JIG (in), 3 SPARE (in), 4 EXT_WAKEUP (out), 5 FB1 (in), 6 VIN (power), 7 VOUT LDO1 (out), 8 VOUT LDO2 (out), 9 nRSTI (in), 10 GND1 (power), 11 VREF, 12 VOUT LDO3 (out), 13 VOUT LDO4 (out), 14 VIN LDO4 (power), 15 VIN BUBATT (power), 16 VOUT LDO_RTC (power), 17 nBATT_FLT (out), 18 PGND2 (power), 19 SW2 (power), 20 VIN BUCK2 (power), 21 SDA (io), 22 SCL (in), 23 FB2 (in), 24 nRSTO (out), 25 VOUT LDO5 (out), 26 VIN LDO5 (power), 27 VDDA (power), 28 FB3 (in), 29 GPIO1/nCHG_EN (io), 30 GPIO2 (io), 31 VIN BUCK3 (power), 32 SW3 (power), 33 PGND3 (power), 34 BGND1,2,3 (power), 35 SYNC (in), 36 SYS_EN (in), 37 PWR_EN (in), 38 PGND1 (power), 39 SW1 (power), 40 VIN BUCK1 (power), 41 DAP (power)

## LP3971SQX-O509/NOPB
designator U?
Power Management Unit for Advanced Application Processors, 40-pin LLP, Pb-Free; PartNumber: LP3971SQX-O509/NOPB; Manufacturer: National Semiconductor; PackageTopMarking: NS*UZXYTT*71-O509; PowerWise: N; CompType: MiscPower; High-Reliability: Y; DatasheetVersion: Oct-2008; PackageVersion: revB, Jul-2004; PackageReference: SQF40A; PackageDescription: LLP, Quad, 5 x 5 x 0.8mm Body, 40 Lead, 0.4mm Pitch, 3.6 x 3.6mm Exposed Pad; RoHS: Y; PinCount: 40; ComponentLink1Description: Manufacturer URL; ComponentLink1URL: http://www.national.com/; ComponentLink2Description: LP3971 Datasheet; ComponentLink2URL: http://www.national.com/ds/LP/LP3971.pdf; ComponentLink3Description: LP3971 Web Page; ComponentLink3URL: http://www.national.com/pf/LP/LP3971.html; ComponentLink4Description: SQF40A Package Page; ComponentLink4URL: http://www.national.com/packaging/folders/sqf40a.html
footprint SQF40A (QFN, 41-Leads, Body 5x5mm, Pitch 0.4mm, Thermal Pad 3.6x3.6mm, NSC Recommended)
pins: 1 PWR_ON (in), 2 nTEST_JIG (in), 3 SPARE (in), 4 EXT_WAKEUP (out), 5 FB1 (in), 6 VIN (power), 7 VOUT LDO1 (out), 8 VOUT LDO2 (out), 9 nRSTI (in), 10 GND1 (power), 11 VREF, 12 VOUT LDO3 (out), 13 VOUT LDO4 (out), 14 VIN LDO4 (power), 15 VIN BUBATT (power), 16 VOUT LDO_RTC (power), 17 nBATT_FLT (out), 18 PGND2 (power), 19 SW2 (power), 20 VIN BUCK2 (power), 21 SDA (io), 22 SCL (in), 23 FB2 (in), 24 nRSTO (out), 25 VOUT LDO5 (out), 26 VIN LDO5 (power), 27 VDDA (power), 28 FB3 (in), 29 GPIO1/nCHG_EN (io), 30 GPIO2 (io), 31 VIN BUCK3 (power), 32 SW3 (power), 33 PGND3 (power), 34 BGND1,2,3 (power), 35 SYNC (in), 36 SYS_EN (in), 37 PWR_EN (in), 38 PGND1 (power), 39 SW1 (power), 40 VIN BUCK1 (power), 41 DAP (power)

## LP3971SQX-P55A/NOPB
designator U?
Power Management Unit for Advanced Application Processors, 40-pin LLP, Pb-Free; PartNumber: LP3971SQX-P55A/NOPB; Manufacturer: National Semiconductor; PackageTopMarking: NS*UZXYTT*71-P55A; PowerWise: N; CompType: MiscPower; High-Reliability: Y; DatasheetVersion: Oct-2008; PackageVersion: revB, Jul-2004; PackageReference: SQF40A; PackageDescription: LLP, Quad, 5 x 5 x 0.8mm Body, 40 Lead, 0.4mm Pitch, 3.6 x 3.6mm Exposed Pad; RoHS: Y; PinCount: 40; ComponentLink1Description: Manufacturer URL; ComponentLink1URL: http://www.national.com/; ComponentLink2Description: LP3971 Datasheet; ComponentLink2URL: http://www.national.com/ds/LP/LP3971.pdf; ComponentLink3Description: LP3971 Web Page; ComponentLink3URL: http://www.national.com/pf/LP/LP3971.html; ComponentLink4Description: SQF40A Package Page; ComponentLink4URL: http://www.national.com/packaging/folders/sqf40a.html
footprint SQF40A (QFN, 41-Leads, Body 5x5mm, Pitch 0.4mm, Thermal Pad 3.6x3.6mm, NSC Recommended)
pins: 1 PWR_ON (in), 2 nTEST_JIG (in), 3 SPARE (in), 4 EXT_WAKEUP (out), 5 FB1 (in), 6 VIN (power), 7 VOUT LDO1 (out), 8 VOUT LDO2 (out), 9 nRSTI (in), 10 GND1 (power), 11 VREF, 12 VOUT LDO3 (out), 13 VOUT LDO4 (out), 14 VIN LDO4 (power), 15 VIN BUBATT (power), 16 VOUT LDO_RTC (power), 17 nBATT_FLT (out), 18 PGND2 (power), 19 SW2 (power), 20 VIN BUCK2 (power), 21 SDA (io), 22 SCL (in), 23 FB2 (in), 24 nRSTO (out), 25 VOUT LDO5 (out), 26 VIN LDO5 (power), 27 VDDA (power), 28 FB3 (in), 29 GPIO1/nCHG_EN (io), 30 GPIO2 (io), 31 VIN BUCK3 (power), 32 SW3 (power), 33 PGND3 (power), 34 BGND1,2,3 (power), 35 SYNC (in), 36 SYS_EN (in), 37 PWR_EN (in), 38 PGND1 (power), 39 SW1 (power), 40 VIN BUCK1 (power), 41 DAP (power)

## LP3971SQX-Q418/NOPB
designator U?
Power Management Unit for Advanced Application Processors, 40-pin LLP, Pb-Free; PartNumber: LP3971SQX-Q418/NOPB; Manufacturer: National Semiconductor; PackageTopMarking: NS*UZXYTT*71-Q418; PowerWise: N; CompType: MiscPower; High-Reliability: Y; DatasheetVersion: Oct-2008; PackageVersion: revB, Jul-2004; PackageReference: SQF40A; PackageDescription: LLP, Quad, 5 x 5 x 0.8mm Body, 40 Lead, 0.4mm Pitch, 3.6 x 3.6mm Exposed Pad; RoHS: Y; PinCount: 40; ComponentLink1Description: Manufacturer URL; ComponentLink1URL: http://www.national.com/; ComponentLink2Description: LP3971 Datasheet; ComponentLink2URL: http://www.national.com/ds/LP/LP3971.pdf; ComponentLink3Description: LP3971 Web Page; ComponentLink3URL: http://www.national.com/pf/LP/LP3971.html; ComponentLink4Description: SQF40A Package Page; ComponentLink4URL: http://www.national.com/packaging/folders/sqf40a.html
footprint SQF40A (QFN, 41-Leads, Body 5x5mm, Pitch 0.4mm, Thermal Pad 3.6x3.6mm, NSC Recommended)
pins: 1 PWR_ON (in), 2 nTEST_JIG (in), 3 SPARE (in), 4 EXT_WAKEUP (out), 5 FB1 (in), 6 VIN (power), 7 VOUT LDO1 (out), 8 VOUT LDO2 (out), 9 nRSTI (in), 10 GND1 (power), 11 VREF, 12 VOUT LDO3 (out), 13 VOUT LDO4 (out), 14 VIN LDO4 (power), 15 VIN BUBATT (power), 16 VOUT LDO_RTC (power), 17 nBATT_FLT (out), 18 PGND2 (power), 19 SW2 (power), 20 VIN BUCK2 (power), 21 SDA (io), 22 SCL (in), 23 FB2 (in), 24 nRSTO (out), 25 VOUT LDO5 (out), 26 VIN LDO5 (power), 27 VDDA (power), 28 FB3 (in), 29 GPIO1/nCHG_EN (io), 30 GPIO2 (io), 31 VIN BUCK3 (power), 32 SW3 (power), 33 PGND3 (power), 34 BGND1,2,3 (power), 35 SYNC (in), 36 SYS_EN (in), 37 PWR_EN (in), 38 PGND1 (power), 39 SW1 (power), 40 VIN BUCK1 (power), 41 DAP (power)

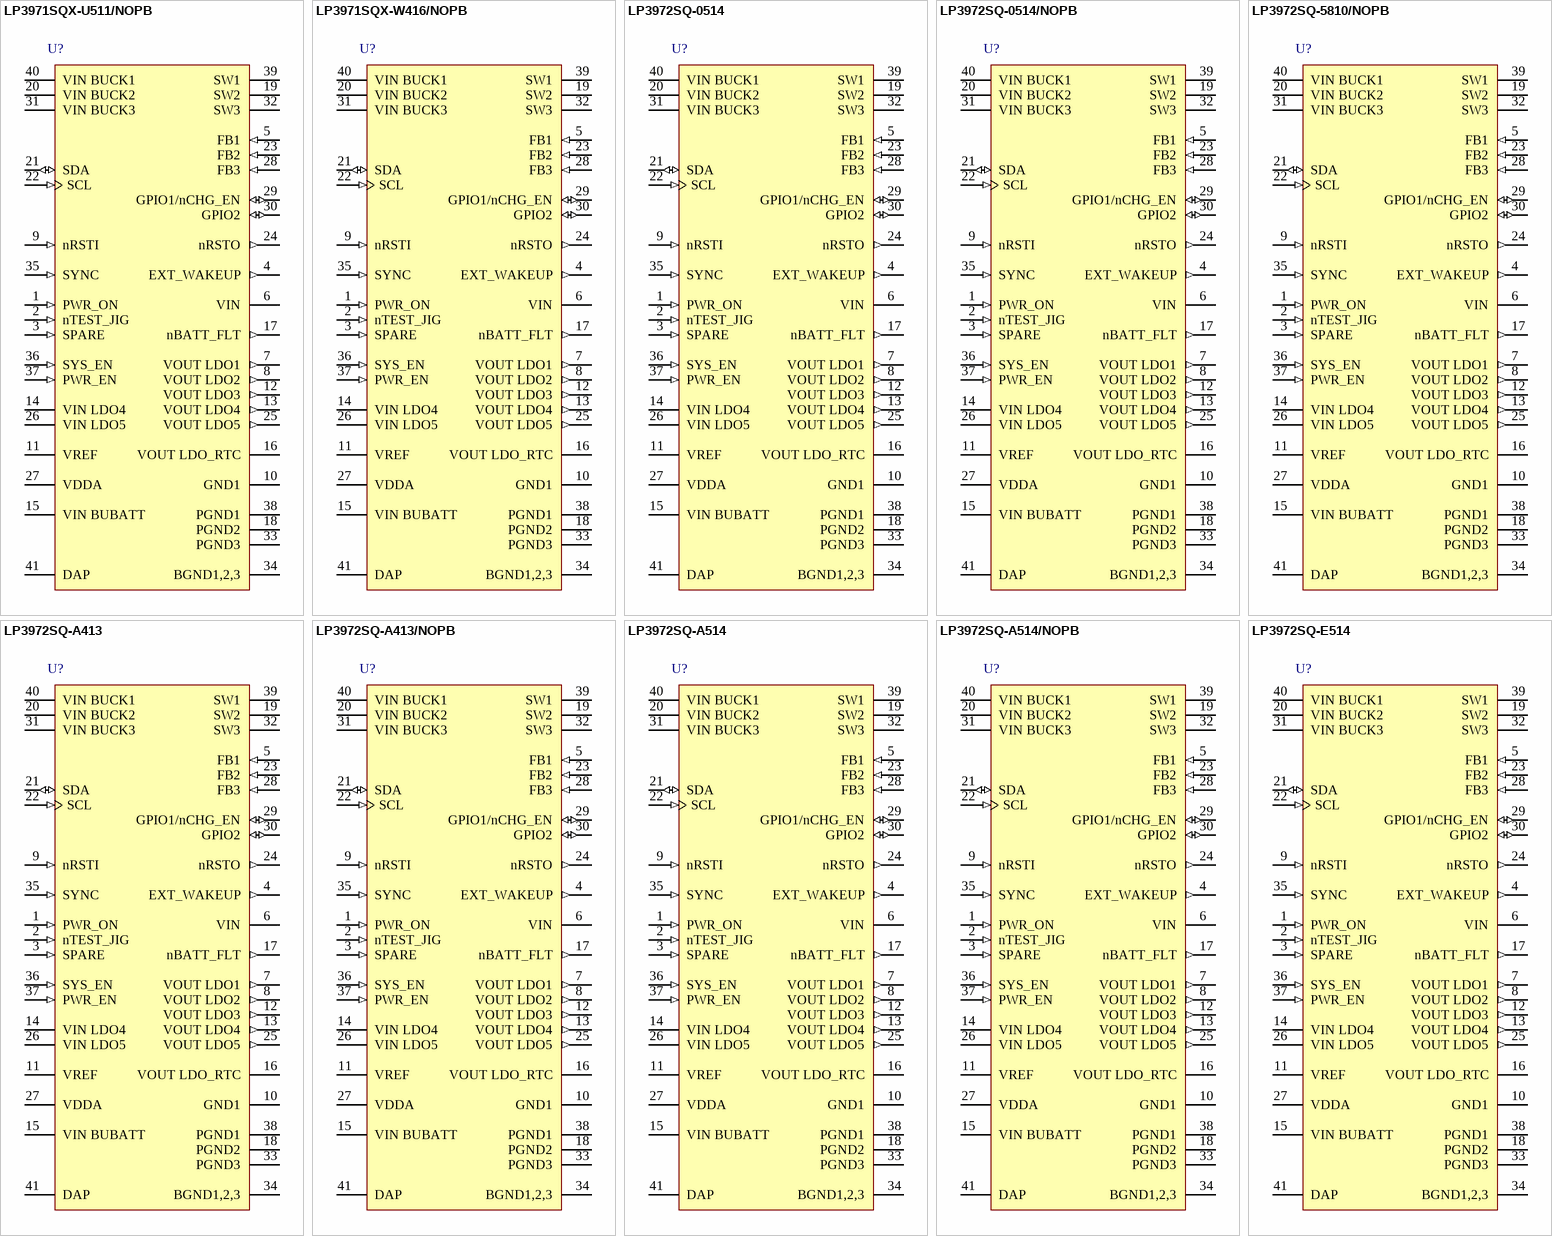
[diagram p52: symbols LP3971SQX-U511/NOPB to LP3972SQ-E514]

## LP3971SQX-U511/NOPB
designator U?
Power Management Unit for Advanced Application Processors, 40-pin LLP, Pb-Free; PartNumber: LP3971SQX-U511/NOPB; Manufacturer: National Semiconductor; PackageTopMarking: NS*UZXYTT*71-U511; PowerWise: N; CompType: MiscPower; High-Reliability: Y; DatasheetVersion: Oct-2008; PackageVersion: revB, Jul-2004; PackageReference: SQF40A; PackageDescription: LLP, Quad, 5 x 5 x 0.8mm Body, 40 Lead, 0.4mm Pitch, 3.6 x 3.6mm Exposed Pad; RoHS: Y; PinCount: 40; ComponentLink1Description: Manufacturer URL; ComponentLink1URL: http://www.national.com/; ComponentLink2Description: LP3971 Datasheet; ComponentLink2URL: http://www.national.com/ds/LP/LP3971.pdf; ComponentLink3Description: LP3971 Web Page; ComponentLink3URL: http://www.national.com/pf/LP/LP3971.html; ComponentLink4Description: SQF40A Package Page; ComponentLink4URL: http://www.national.com/packaging/folders/sqf40a.html
footprint SQF40A (QFN, 41-Leads, Body 5x5mm, Pitch 0.4mm, Thermal Pad 3.6x3.6mm, NSC Recommended)
pins: 1 PWR_ON (in), 2 nTEST_JIG (in), 3 SPARE (in), 4 EXT_WAKEUP (out), 5 FB1 (in), 6 VIN (power), 7 VOUT LDO1 (out), 8 VOUT LDO2 (out), 9 nRSTI (in), 10 GND1 (power), 11 VREF, 12 VOUT LDO3 (out), 13 VOUT LDO4 (out), 14 VIN LDO4 (power), 15 VIN BUBATT (power), 16 VOUT LDO_RTC (power), 17 nBATT_FLT (out), 18 PGND2 (power), 19 SW2 (power), 20 VIN BUCK2 (power), 21 SDA (io), 22 SCL (in), 23 FB2 (in), 24 nRSTO (out), 25 VOUT LDO5 (out), 26 VIN LDO5 (power), 27 VDDA (power), 28 FB3 (in), 29 GPIO1/nCHG_EN (io), 30 GPIO2 (io), 31 VIN BUCK3 (power), 32 SW3 (power), 33 PGND3 (power), 34 BGND1,2,3 (power), 35 SYNC (in), 36 SYS_EN (in), 37 PWR_EN (in), 38 PGND1 (power), 39 SW1 (power), 40 VIN BUCK1 (power), 41 DAP (power)

## LP3971SQX-W416/NOPB
designator U?
Power Management Unit for Advanced Application Processors, 40-pin LLP, Pb-Free; PartNumber: LP3971SQX-W416/NOPB; Manufacturer: National Semiconductor; PackageTopMarking: NS*UZXYTT*71W416; PowerWise: N; CompType: MiscPower; High-Reliability: Y; DatasheetVersion: Oct-2008; PackageVersion: revB, Jul-2004; PackageReference: SQF40A; PackageDescription: LLP, Quad, 5 x 5 x 0.8mm Body, 40 Lead, 0.4mm Pitch, 3.6 x 3.6mm Exposed Pad; RoHS: Y; PinCount: 40; ComponentLink1Description: Manufacturer URL; ComponentLink1URL: http://www.national.com/; ComponentLink2Description: LP3971 Datasheet; ComponentLink2URL: http://www.national.com/ds/LP/LP3971.pdf; ComponentLink3Description: LP3971 Web Page; ComponentLink3URL: http://www.national.com/pf/LP/LP3971.html; ComponentLink4Description: SQF40A Package Page; ComponentLink4URL: http://www.national.com/packaging/folders/sqf40a.html
footprint SQF40A (QFN, 41-Leads, Body 5x5mm, Pitch 0.4mm, Thermal Pad 3.6x3.6mm, NSC Recommended)
pins: 1 PWR_ON (in), 2 nTEST_JIG (in), 3 SPARE (in), 4 EXT_WAKEUP (out), 5 FB1 (in), 6 VIN (power), 7 VOUT LDO1 (out), 8 VOUT LDO2 (out), 9 nRSTI (in), 10 GND1 (power), 11 VREF, 12 VOUT LDO3 (out), 13 VOUT LDO4 (out), 14 VIN LDO4 (power), 15 VIN BUBATT (power), 16 VOUT LDO_RTC (power), 17 nBATT_FLT (out), 18 PGND2 (power), 19 SW2 (power), 20 VIN BUCK2 (power), 21 SDA (io), 22 SCL (in), 23 FB2 (in), 24 nRSTO (out), 25 VOUT LDO5 (out), 26 VIN LDO5 (power), 27 VDDA (power), 28 FB3 (in), 29 GPIO1/nCHG_EN (io), 30 GPIO2 (io), 31 VIN BUCK3 (power), 32 SW3 (power), 33 PGND3 (power), 34 BGND1,2,3 (power), 35 SYNC (in), 36 SYS_EN (in), 37 PWR_EN (in), 38 PGND1 (power), 39 SW1 (power), 40 VIN BUCK1 (power), 41 DAP (power)

## LP3972SQ-0514
designator U?
Power Management Unit for Advanced Application Processor, 40-pin LLP; PartNumber: LP3972SQ-0514; Manufacturer: National Semiconductor; PackageTopMarking: NS*UZXYTT*72-0514; PowerWise: N; CompType: MiscPower; High-Reliability: Y; DatasheetVersion: Jun-2009; PackageVersion: revB, Jul-2004; PackageReference: SQF40A; PackageDescription: LLP, Quad, 5 x 5 x 0.8mm Body, 40 Lead, 0.4mm Pitch, 3.6 x 3.6mm Exposed Pad; RoHS: Y; PinCount: 40; ComponentLink1Description: Manufacturer URL; ComponentLink1URL: http://www.national.com/; ComponentLink2Description: LP3972 Datasheet; ComponentLink2URL: http://www.national.com/ds/LP/LP3972.pdf; ComponentLink3Description: LP3972 Web Page; ComponentLink3URL: http://www.national.com/pf/LP/LP3972.html; ComponentLink4Description: SQF40A Package Page; ComponentLink4URL: http://www.national.com/packaging/folders/sqf40a.html
footprint SQF40A (QFN, 41-Leads, Body 5x5mm, Pitch 0.4mm, Thermal Pad 3.6x3.6mm, NSC Recommended)
pins: 1 PWR_ON (in), 2 nTEST_JIG (in), 3 SPARE (in), 4 EXT_WAKEUP (out), 5 FB1 (in), 6 VIN (power), 7 VOUT LDO1 (out), 8 VOUT LDO2 (out), 9 nRSTI (in), 10 GND1 (power), 11 VREF, 12 VOUT LDO3 (out), 13 VOUT LDO4 (out), 14 VIN LDO4 (power), 15 VIN BUBATT (power), 16 VOUT LDO_RTC (power), 17 nBATT_FLT (out), 18 PGND2 (power), 19 SW2 (power), 20 VIN BUCK2 (power), 21 SDA (io), 22 SCL (in), 23 FB2 (in), 24 nRSTO (out), 25 VOUT LDO5 (out), 26 VIN LDO5 (power), 27 VDDA (power), 28 FB3 (in), 29 GPIO1/nCHG_EN (io), 30 GPIO2 (io), 31 VIN BUCK3 (power), 32 SW3 (power), 33 PGND3 (power), 34 BGND1,2,3 (power), 35 SYNC (in), 36 SYS_EN (in), 37 PWR_EN (in), 38 PGND1 (power), 39 SW1 (power), 40 VIN BUCK1 (power), 41 DAP (power)

## LP3972SQ-0514/NOPB
designator U?
Power Management Unit for Advanced Application Processors, 40-pin LLP, Pb-Free, 1000 Reel; PartNumber: LP3972SQ-0514/NOPB; Manufacturer: National Semiconductor; PackageTopMarking: NS*UZXYTT*72-0514; PowerWise: N; CompType: MiscPower; High-Reliability: Y; DatasheetVersion: Aug-2011; PackageVersion: revB, Jul-2004; PackageReference: SQF40A; PackageDescription: LLP, Quad, 5 x 5 x 0.8mm Body, 40 Lead, 0.4mm Pitch, 3.6 x 3.6mm Exposed Pad; RoHS: Y; PinCount: 40; ComponentLink1Description: Manufacturer URL; ComponentLink1URL: http://www.national.com/; ComponentLink2Description: LP3972 Datasheet; ComponentLink2URL: http://www.national.com/ds/LP/LP3972.pdf; ComponentLink3Description: LP3972 Web Page; ComponentLink3URL: http://www.national.com/pf/LP/LP3972.html; ComponentLink4Description: SQF40A Package Page; ComponentLink4URL: http://www.national.com/packaging/folders/sqf40a.html
footprint SQF40A (QFN, 41-Leads, Body 5x5mm, Pitch 0.4mm, Thermal Pad 3.6x3.6mm, NSC Recommended)
pins: 1 PWR_ON (in), 2 nTEST_JIG (in), 3 SPARE (in), 4 EXT_WAKEUP (out), 5 FB1 (in), 6 VIN (power), 7 VOUT LDO1 (out), 8 VOUT LDO2 (out), 9 nRSTI (in), 10 GND1 (power), 11 VREF, 12 VOUT LDO3 (out), 13 VOUT LDO4 (out), 14 VIN LDO4 (power), 15 VIN BUBATT (power), 16 VOUT LDO_RTC (power), 17 nBATT_FLT (out), 18 PGND2 (power), 19 SW2 (power), 20 VIN BUCK2 (power), 21 SDA (io), 22 SCL (in), 23 FB2 (in), 24 nRSTO (out), 25 VOUT LDO5 (out), 26 VIN LDO5 (power), 27 VDDA (power), 28 FB3 (in), 29 GPIO1/nCHG_EN (io), 30 GPIO2 (io), 31 VIN BUCK3 (power), 32 SW3 (power), 33 PGND3 (power), 34 BGND1,2,3 (power), 35 SYNC (in), 36 SYS_EN (in), 37 PWR_EN (in), 38 PGND1 (power), 39 SW1 (power), 40 VIN BUCK1 (power), 41 DAP (power)

## LP3972SQ-5810/NOPB
designator U?
Power Management Unit for Advanced Application Processors, 40-pin LLP; PartNumber: LP3972SQ-5810/NOPB; Manufacturer: National Semiconductor; PackageTopMarking: NS*UZXYTT*72-5810; PowerWise: N; CompType: MiscPower; High-Reliability: Y; DatasheetVersion: Aug-2011; PackageVersion: revB, Jul-2004; PackageReference: SQF40A; PackageDescription: LLP, Quad, 5 x 5 x 0.8mm Body, 40 Lead, 0.4mm Pitch, 3.6 x 3.6mm Exposed Pad; RoHS: Y; PinCount: 40; ComponentLink1Description: Manufacturer URL; ComponentLink1URL: http://www.national.com/; ComponentLink2Description: LP3972 Datasheet; ComponentLink2URL: http://www.national.com/ds/LP/LP3972.pdf; ComponentLink3Description: LP3972 Web Page; ComponentLink3URL: http://www.national.com/pf/LP/LP3972.html; ComponentLink4Description: SQF40A Package Page; ComponentLink4URL: http://www.national.com/packaging/folders/sqf40a.html
footprint SQF40A (QFN, 41-Leads, Body 5x5mm, Pitch 0.4mm, Thermal Pad 3.6x3.6mm, NSC Recommended)
pins: 1 PWR_ON (in), 2 nTEST_JIG (in), 3 SPARE (in), 4 EXT_WAKEUP (out), 5 FB1 (in), 6 VIN (power), 7 VOUT LDO1 (out), 8 VOUT LDO2 (out), 9 nRSTI (in), 10 GND1 (power), 11 VREF, 12 VOUT LDO3 (out), 13 VOUT LDO4 (out), 14 VIN LDO4 (power), 15 VIN BUBATT (power), 16 VOUT LDO_RTC (power), 17 nBATT_FLT (out), 18 PGND2 (power), 19 SW2 (power), 20 VIN BUCK2 (power), 21 SDA (io), 22 SCL (in), 23 FB2 (in), 24 nRSTO (out), 25 VOUT LDO5 (out), 26 VIN LDO5 (power), 27 VDDA (power), 28 FB3 (in), 29 GPIO1/nCHG_EN (io), 30 GPIO2 (io), 31 VIN BUCK3 (power), 32 SW3 (power), 33 PGND3 (power), 34 BGND1,2,3 (power), 35 SYNC (in), 36 SYS_EN (in), 37 PWR_EN (in), 38 PGND1 (power), 39 SW1 (power), 40 VIN BUCK1 (power), 41 DAP (power)

## LP3972SQ-A413
designator U?
Power Management Unit for Advanced Application Processor, 40-pin LLP, 1000 Reel; PartNumber: LP3972SQ-A413; Manufacturer: National Semiconductor; PackageTopMarking: NS*UZXYTT*72-A413; PowerWise: Y; CompType: MiscPower; DatasheetVersion: Aug-2011; PackageVersion: revB, Jul-2004; PackageReference: SQF40A; PackageDescription: LLP, Quad, 5 x 5 x 0.8mm Body, 40 Lead, 0.4mm Pitch, 3.6 x 3.6mm Exposed Pad; RoHS: N; PinCount: 40; High-Reliability: Y; ComponentLink1Description: Manufacturer URL; ComponentLink1URL: http://www.national.com/; ComponentLink2Description: LP3972 Datasheet; ComponentLink2URL: http://www.national.com/ds/LP/LP3972.pdf; ComponentLink3Description: LP3972 Web Page; ComponentLink3URL: http://www.national.com/pf/LP/LP3972.html; ComponentLink4Description: SQF40A Package Page; ComponentLink4URL: http://www.national.com/packaging/folders/sqf40a.html
footprint SQF40A (QFN, 41-Leads, Body 5x5mm, Pitch 0.4mm, Thermal Pad 3.6x3.6mm, NSC Recommended)
pins: 1 PWR_ON (in), 2 nTEST_JIG (in), 3 SPARE (in), 4 EXT_WAKEUP (out), 5 FB1 (in), 6 VIN (power), 7 VOUT LDO1 (out), 8 VOUT LDO2 (out), 9 nRSTI (in), 10 GND1 (power), 11 VREF, 12 VOUT LDO3 (out), 13 VOUT LDO4 (out), 14 VIN LDO4 (power), 15 VIN BUBATT (power), 16 VOUT LDO_RTC (power), 17 nBATT_FLT (out), 18 PGND2 (power), 19 SW2 (power), 20 VIN BUCK2 (power), 21 SDA (io), 22 SCL (in), 23 FB2 (in), 24 nRSTO (out), 25 VOUT LDO5 (out), 26 VIN LDO5 (power), 27 VDDA (power), 28 FB3 (in), 29 GPIO1/nCHG_EN (io), 30 GPIO2 (io), 31 VIN BUCK3 (power), 32 SW3 (power), 33 PGND3 (power), 34 BGND1,2,3 (power), 35 SYNC (in), 36 SYS_EN (in), 37 PWR_EN (in), 38 PGND1 (power), 39 SW1 (power), 40 VIN BUCK1 (power), 41 DAP (power)

## LP3972SQ-A413/NOPB
designator U?
Power Management Unit for Advanced Application Processors, 40-pin LLP, Pb-Free, 1000 Reel; PartNumber: LP3972SQ-A413/NOPB; Manufacturer: National Semiconductor; PackageTopMarking: NS*UZXYTT*72-A413; PowerWise: Y; CompType: MiscPower; DatasheetVersion: Aug-2011; PackageVersion: revB, Jul-2004; PackageReference: SQF40A; PackageDescription: LLP, Quad, 5 x 5 x 0.8mm Body, 40 Lead, 0.4mm Pitch, 3.6 x 3.6mm Exposed Pad; RoHS: Y; PinCount: 40; High-Reliability: Y; ComponentLink1Description: Manufacturer URL; ComponentLink1URL: http://www.national.com/; ComponentLink2Description: LP3972 Datasheet; ComponentLink2URL: http://www.national.com/ds/LP/LP3972.pdf; ComponentLink3Description: LP3972 Web Page; ComponentLink3URL: http://www.national.com/pf/LP/LP3972.html; ComponentLink4Description: SQF40A Package Page; ComponentLink4URL: http://www.national.com/packaging/folders/sqf40a.html
footprint SQF40A (QFN, 41-Leads, Body 5x5mm, Pitch 0.4mm, Thermal Pad 3.6x3.6mm, NSC Recommended)
pins: 1 PWR_ON (in), 2 nTEST_JIG (in), 3 SPARE (in), 4 EXT_WAKEUP (out), 5 FB1 (in), 6 VIN (power), 7 VOUT LDO1 (out), 8 VOUT LDO2 (out), 9 nRSTI (in), 10 GND1 (power), 11 VREF, 12 VOUT LDO3 (out), 13 VOUT LDO4 (out), 14 VIN LDO4 (power), 15 VIN BUBATT (power), 16 VOUT LDO_RTC (power), 17 nBATT_FLT (out), 18 PGND2 (power), 19 SW2 (power), 20 VIN BUCK2 (power), 21 SDA (io), 22 SCL (in), 23 FB2 (in), 24 nRSTO (out), 25 VOUT LDO5 (out), 26 VIN LDO5 (power), 27 VDDA (power), 28 FB3 (in), 29 GPIO1/nCHG_EN (io), 30 GPIO2 (io), 31 VIN BUCK3 (power), 32 SW3 (power), 33 PGND3 (power), 34 BGND1,2,3 (power), 35 SYNC (in), 36 SYS_EN (in), 37 PWR_EN (in), 38 PGND1 (power), 39 SW1 (power), 40 VIN BUCK1 (power), 41 DAP (power)